# EAGLE library part 7508110419 (library Wurth_Power Magnetics_WE-OLEE)
MID-OLEE EE-Style Offline Flyback Transformers Characteristics Switching Frequency 50-150kHz Low real estate Extended Rails Reinforced Insulation IEC60950-1, EN60950-1, UL60950-1/CSA60950-1 and AS/NZS60950.1 Operating Temp: -40°C to +125°C Applications Offline Switching Power Power Electronics Electronic Ballasts White Goods Industrial Controls Industrial Telecom Metering LED Lighting <https://www.we-online.com/catalog/media/o32894v209%20Family_MID-OLEE.jpg> Details see: https://www.we-online.com/catalog/en/MID-OLEE Created by Ella Wu 2020-10-21 2020 (C) Wurth Elektronik
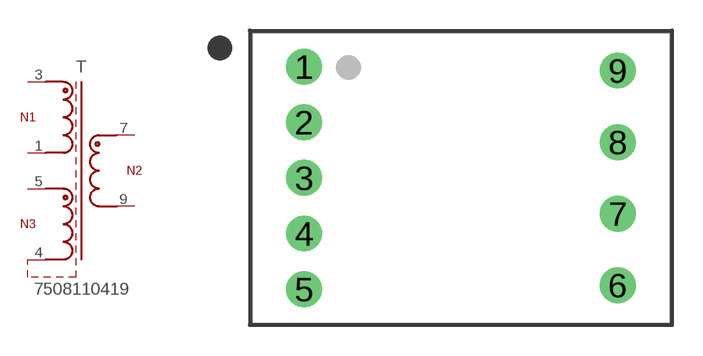
[diagram p20: symbol with the pads of WE-OLEE_EE13/6/6; footprint WE-OLEE_EE13/6/6]

Designator prefix T

## 7508110419 (DATASHEET-URL: https://www.we-online.com/redexpert/spec/7508110419?ae; F-SWTICH: 50-65kHz; HEIGHT: 14.6mm; IOUT1: 0.17A; ISAT1: 0.26A; L1: 2.25mH; LENGTH: 14.2mm; MOUNT: THT; N: 3.8:1.19:1; PART-NUMBER: 7508110419; VALUE: 7508110419; VAUX: 20V; VIN: 55 - 265 V (AC); VOUT1: 24V; VT: 3600V (AC); WIDTH: 20.45mm)  [WE-OLEE_EE13/6/6]
1  1  pas
3  3  pas
4  4  pas
5  5  pas
7  7  pas
9  9  pas

## Footprint WE-OLEE_EE13/6/6 (pad centres in mm)
WE-OLEE EE-Style Offline Flyback Transformers Size: EE13/6/6,THT,9pins LXWXH=14.2X20.45X14.6mm
drill 1.17: 1 -7.675,5.44; 2 -7.675,2.72; 3 -7.675,0; 4 -7.675,-2.72; 5 -7.675,-5.44; 6 7.675,-5.25; 7 7.675,-1.75; 8 7.675,1.75; 9 7.675,5.25